# EAGLE library part 722-840 (library con-wago_7.5mm)
Serie 722, Federleiste mit abgewinkelten Einlötstiften / Series 722, Female connector with angled solder pins Polzahl / Pole No.: 10 Rastermaß / Pitch: 7.5 mm Bemessungsspannung / Rated Voltage: 630 V Nennstrom / Nominal Current: 12 A Lötstiftlänge: / Solder Pin Length: 5 mm Farbe / Color: lichtgrau / light gray Stand: 01.01.2012. Die jeweils aktuellen Daten zu diesem Artikel finden Sie in unserem Produktkatalog, den Sie unter www.wago.com einsehen können. As of: 01/01/2012. Please find the newest data for this article in our product catalogue, which can be viewed under www.wago.com.
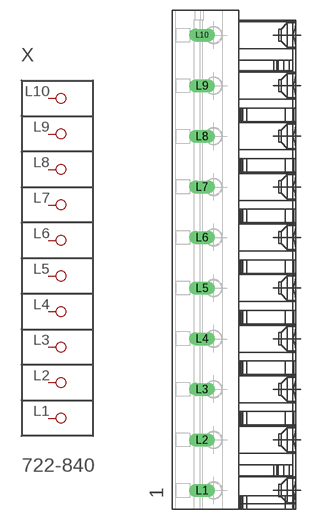
[diagram p44: symbol with the pads of P-722-840; footprint P-722-840]

Designator prefix X

## 722-840  [P-722-840]
L1  P1
L2  P2
L3  P3
L4  P4
L5  P5
L6  P6
L7  P7
L8  P8
L9  P9
L10  P10

## Footprint P-722-840 (pad centres in mm)
drill 1.3 long: L1 -5.114,-34.2; L2 -5.114,-26.7; L3 -5.114,-19.2; L4 -5.114,-11.7; L5 -5.114,-4.2; L6 -5.114,3.3; L7 -5.114,10.8; L8 -5.114,18.3; L9 -5.114,25.8; L10 -5.114,33.3